# Altium footprint library 436500200.PcbLib: 1 footprints
Each footprint in its own frame and in the unit in brackets; x right, y up, seen from the top. Pads: shape width x height; smd on the part's side, far side on the other; paste and mask are expansions set on the pad; w line width, h text height; cw(c..) or ccw(c..) is an arc to the next point about the centre after c.
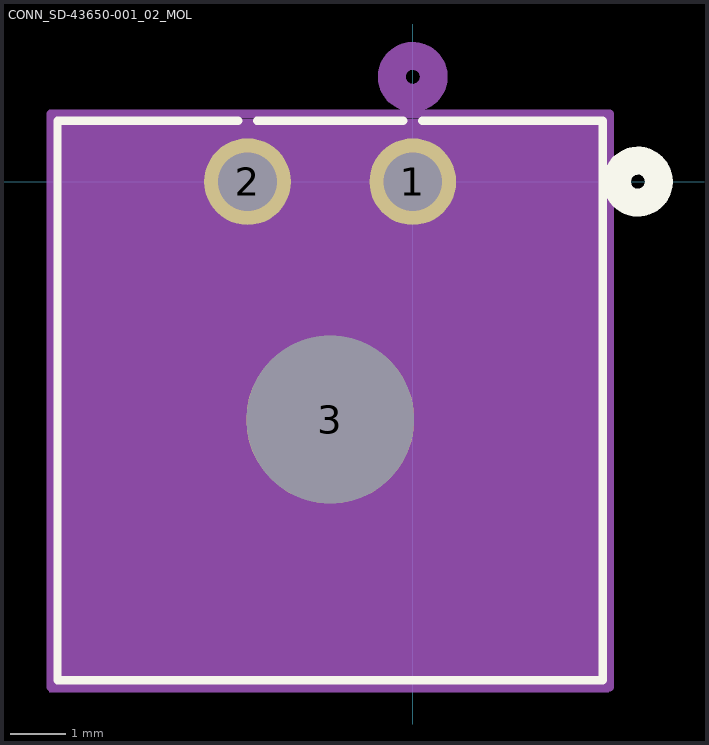
[diagram p0: the footprint, top view; thin cyan lines are the x and y axes]

## CONN_SD-43650-001_02_MOL [mil]
pads (3):
  round 62 / inner round 60 / far side round 62 hole 42 paste-99999 mask+0: 1(0,0) 2(-118.11,0)
  round 120 / inner round 60 / far side round 120 hole 120 unplated paste-99999 mask-60: 3(-59.06,-170.08)
Top Overlay:
  circle w20: c160.94,0 r15
  lines w6: -124.85,43.58 -254.06,43.58 -254.06,-356.42 135.94,-356.42 135.94,43.58 6.74,43.58 ; -111.38,43.58 -6.74,43.58
Bottom Overlay:
  circle w20: c160.94,0 r15
Mechanical 13:
  circle w20: c0,75 r15
  lines w1: -249.06,-351.42 130.94,-351.42 130.94,38.58 -249.06,38.58 -249.06,-351.42
Mechanical 15:
  region: 140,45 -260,45 -260,-365 140,-365
  lines w6: -259.06,-361.42 -259.06,48.58 140.94,48.58 140.94,-361.42 -259.06,-361.42
3D body "436500200.stp": height 221.21, standoff -128, extent -250,-349.88 129.92,39.88